# EAGLE library part 10018783-10010TLF (library 10018783-10010TLF)
PCI Express GEN 3 Card Edge, Storage and Server Connector, Vertical, Through Hole, x1, 36 Positions, 1.00mm (0.039in) Pitch Source: Datasheet <https://cdn.amphenol-cs.com/media/wysiwyg/files/drawing/10018783.pdf>
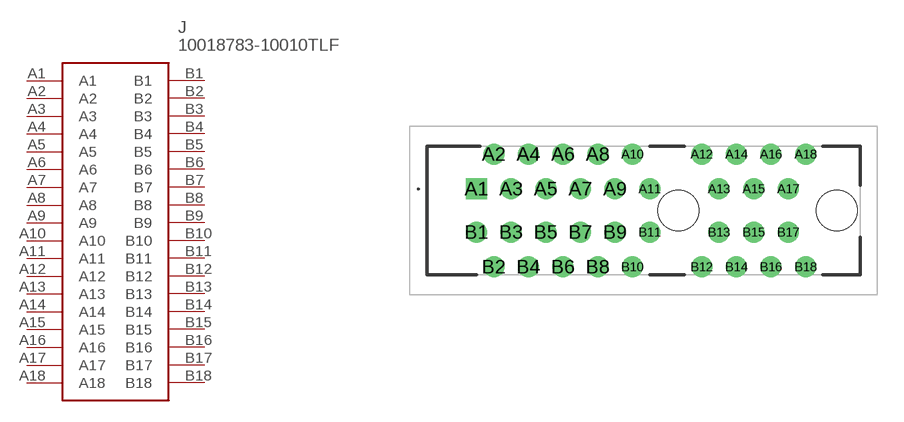
[diagram p0: symbol with the pads of 1001878310010TLF; footprint 1001878310010TLF]

Designator prefix J

## 10018783-10010TLF (Description: PCI Express<sup></sup> GEN 3 Card Edge, Storage and Server Connector, Vertical, Through Hole, x1, 36 Positions, 1.00mm (0.039in) Pitch; Height: 11.25mm; Manufacturer_Name: Amphenol Communications Solutions; Manufacturer_Part_Number: 10018783-10010TLF)  [1001878310010TLF]
A1  A1
A2  A2
A3  A3
A4  A4
A5  A5
A6  A6
A7  A7
A8  A8
A9  A9
A10  A10
A11  A11
A12  A12
A13  A13
A14  A14
A15  A15
A16  A16
A17  A17
A18  A18
B1  B1
B2  B2
B3  B3
B4  B4
B5  B5
B6  B6
B7  B7
B8  B8
B9  B9
B10  B10
B11  B11
B12  B12
B13  B13
B14  B14
B15  B15
B16  B16
B17  B17
B18  B18

## Footprint 1001878310010TLF (pad centres in mm)
10018783-10010TLF-1
drill 0.7 pad 1.2 square: A1 0,0
drill 0.7 pad 1.2: A2 1,2; A3 2,0; A4 3,2; A5 4,0; A6 5,2; A7 6,0; A8 7,2; A9 8,0; A10 9,2; A11 10,0; A12 13,2; A13 14,0; A14 15,2; A15 16,0; A16 17,2; A17 18,0; A18 19,2; B1 0,-2.5; B2 1,-4.5; B3 2,-2.5; B4 3,-4.5; B5 4,-2.5; B6 5,-4.5; B7 6,-2.5; B8 7,-4.5; B9 8,-2.5; B10 9,-4.5; B11 10,-2.5; B12 13,-4.5; B13 14,-2.5; B14 15,-4.5; B15 16,-2.5; B16 17,-4.5; B17 18,-2.5; B18 19,-4.5
hole 2.35 at 11.65,-1.25
hole 2.35 at 20.8,-1.25